# Altium footprint library PMP12082_TID.PcbLib: 28 footprints (part 2 of 2)
Each footprint in its own frame and in the unit in brackets; x right, y up, seen from the top. Pads: shape width x height; smd on the part's side, far side on the other; paste and mask are expansions set on the pad; w line width, h text height; cw(c..) or ccw(c..) is an arc to the next point about the centre after c.
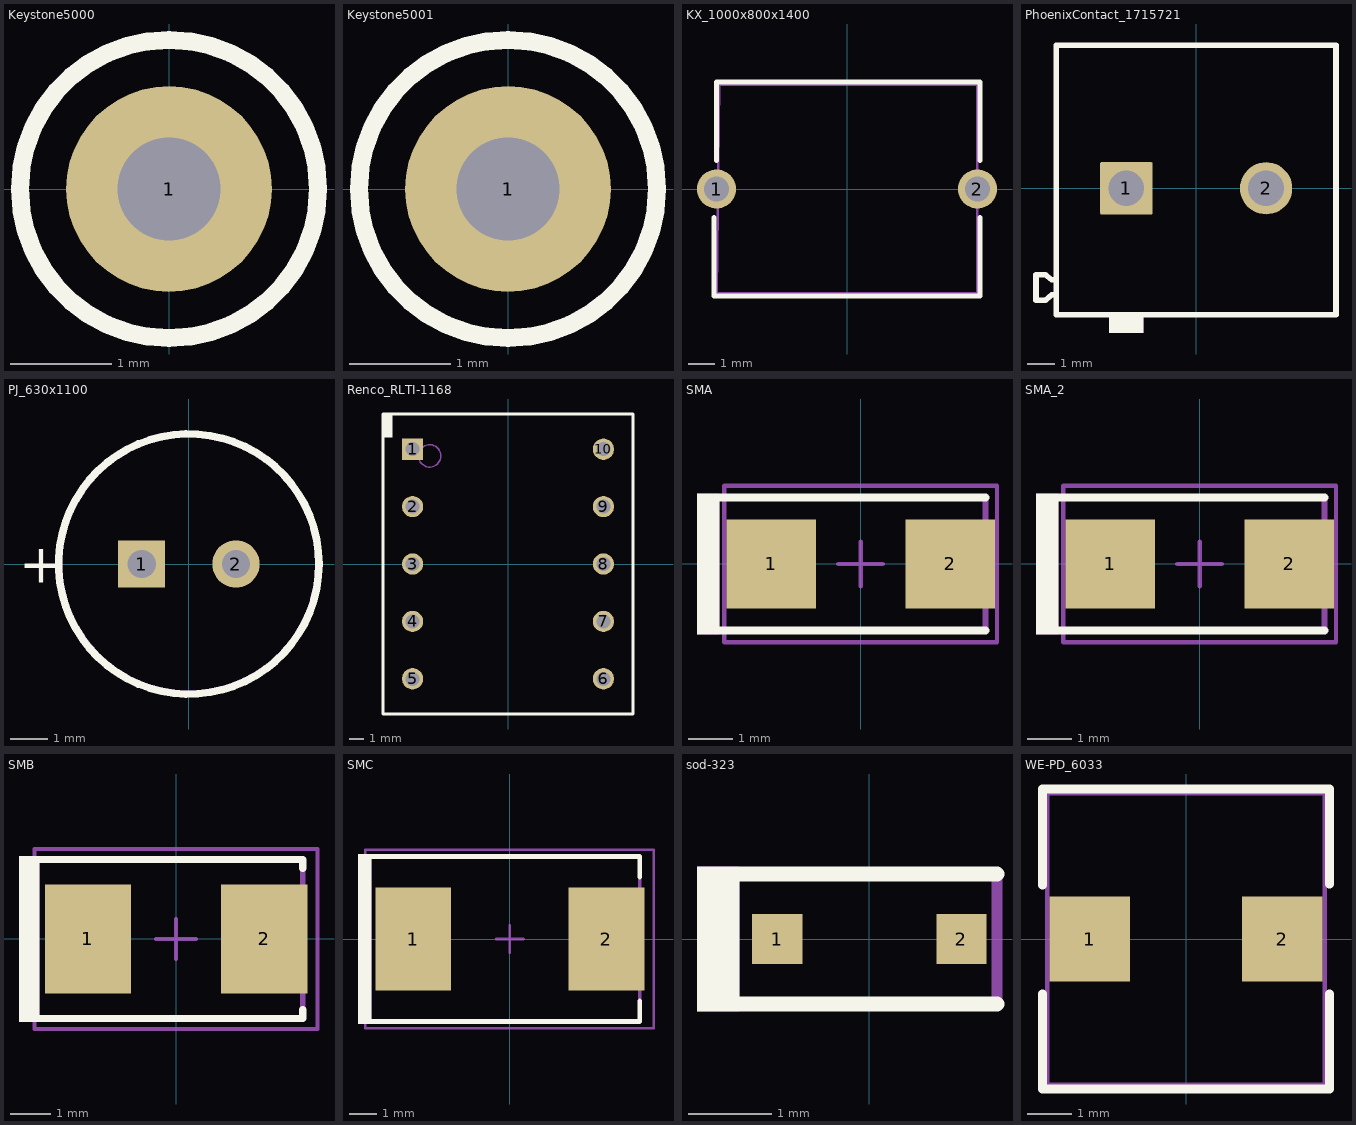
[diagram p1: the footprints below, top view; thin cyan lines are the x and y axes]

## Keystone5000 [mil]
pads (1):
  round 80 hole 40: 1(0,0)
Top Overlay:
  circle w7: c0,0 r58
Mechanical 5:
  circle w5: c0,0 r58.31
  text ".Designator" at -45,-10 h30
3D body "Keystone_5000.stp": height 181.97, standoff -118.11, extent -49,-49 49.04,49.24

## Keystone5001 [mil]
pads (1):
  round 80 hole 40: 1(0,0)
Top Overlay:
  circle w7: c0,0 r58
Mechanical 5:
  circle w5: c0,0 r58.31
  text ".Designator" at -45,-10 h30
3D body "Keystone_5001.stp": height 181.97, standoff -118.11, extent -49,-49 49.04,49.24

## KX_1000x800x1400 [mm]
pads (2):
  round 1.5 hole 0.95: 1(-5,0) 2(5,0)
Top Overlay:
  lines w0.2: -5.1,-1.1 -5.1,-4.1 5.1,-4.1 5.1,-1.1 ; -5,1.1 -5,4.1 5.1,4.1 5.1,1.1
Mechanical 5:
  lines w0.1: -5,-4 5,-4 5,4 -4.9,4 -5,-4
  text ".Designator" at -1.8,-0.6 h1.02
3D body: height 1.35, standoff 0.65, extent 4.654,-0.348 5.35,0.349
3D body: height 1.35, standoff 0.65, extent -5.307,-0.349 -4.611,0.348
3D body: height 1, standoff -3, extent 4.653,-0.349 5.35,0.349
3D body: height 4.78, standoff 0.75, extent 1.217,-0.35 5.245,0.349
3D body: height 4.78, standoff 0.75, extent -5.245,-0.349 -1.217,0.35
3D body: height 1, standoff -3, extent -5.308,-0.349 -4.61,0.349
3D body: height 11.99, standoff 2.01, extent -4.961,-4 5,4

## PhoenixContact_1715721 [mm]
pads (2):
  rrect5% 1.905x1.905 hole 1.3: 1(-2.54,0)
  round 1.9 hole 1.3: 2(2.54,0)
Top Overlay:
  rectangle: -3.17,-5.25 -1.92,-4.6
  lines w0.2: -5.08,-3.869 -5.247,-3.869 -5.479,-4.064 -5.821,-4.064 -5.821,-3.136 -5.479,-3.136 -5.247,-3.331 -5.08,-3.331 ; -5.08,-4.6 5.08,-4.6 5.08,5.2 -5.08,5.2 -5.08,-4.6
Mechanical 5:
  rectangle: -3.17,-5.25 -1.92,-4.6
  lines w0.1: -5.08,-3.869 -5.247,-3.869 -5.479,-4.064 -5.821,-4.064 -5.821,-3.136 -5.479,-3.136 -5.247,-3.331 -5.08,-3.331 ; -5.08,-4.6 -5.08,5.2 5.08,5.2 5.08,-4.6 -5.08,-4.6
  text ".Designator" at -1.14,-0.5 h1.52
3D body "1715721.stp": height 14.2, standoff -3.5, extent -5.817,-4.598 5.084,5.202

## PJ_630x1100 [mm]
pads (2):
  rect 1.25x1.25 hole 0.75: 1(-1.25,0)
  round 1.25 hole 0.75: 2(1.25,0)
Top Overlay:
  circle w0.2: c0,0 r3.45
  text "+" at -4.5,-0.5 h1.02
Mechanical 5:
  circle w0.1: c0,0 r3.4
  text "+" at -4.5,-0.5 h1.02
  text ".Designator" at -2,-0.5 h1.02
3D body "PJ_630x1100.stp": height 12.01, standoff -4, extent -3.373,-3.394 3.397,3.395

## Renco_RLTI-1168 [mm]
pads (10):
  rect 1.45x1.45 hole 0.95: 1(-6.502,7.823)
  round 1.45 hole 0.95: 2(-6.502,3.912) 3(-6.502,0) 4(-6.502,-3.912) 5(-6.502,-7.823) 6(6.502,-7.823) 7(6.502,-3.912) 8(6.502,0) 9(6.502,3.912) 10(6.502,7.823)
Top Overlay:
  rectangle: -8.509,8.636 -7.874,10.16
  lines w0.2: -8.509,-10.223 -8.509,10.223 8.509,10.223 8.509,-10.223 -8.509,-10.223
Mechanical 5:
  circle w0.1: c-5.334,7.366 r0.762
  lines w0.1: -8.509,-10.223 8.509,-10.223 8.509,10.223 -8.509,10.223 -8.509,-10.223
  text ".Designator" at -2.032,-0.508 h1.02
3D body: height 2.54, standoff -2.54, extent 6.162,7.481 6.845,8.166
3D body: height 2.54, standoff -2.54, extent 6.162,3.57 6.845,4.254
3D body: height 2.54, standoff -2.54, extent 6.162,-0.342 6.845,0.342
3D body: height 2.54, standoff -2.54, extent 6.162,-4.254 6.845,-3.569
3D body: height 2.54, standoff -2.54, extent 6.162,-8.165 6.845,-7.481
3D body: height 2.54, standoff -2.54, extent -6.842,-8.165 -6.159,-7.481
3D body: height 2.54, standoff -2.54, extent -6.842,-4.254 -6.159,-3.569
3D body: height 2.54, standoff -2.54, extent -6.842,-0.342 -6.159,0.342
3D body: height 2.54, standoff -2.54, extent -6.842,3.57 -6.159,4.254
3D body: height 2.54, standoff -2.54, extent -6.842,7.481 -6.159,8.166
3D body: height 20.95, standoff 8.25, extent -7.56,-7.605 7.62,7.605
3D body: height 8.89, standoff 2.54, extent 3.81,-10.223 8.509,10.223
3D body: height 8.89, standoff 2.54, extent -8.509,-10.223 -3.81,10.223
3D body: height 8.89, standoff 0, extent 2.54,-10.223 3.81,10.223
3D body: height 8.89, standoff 0, extent -3.81,-10.223 -2.54,10.223
3D body: height 24.13, standoff 7.62, extent -2.54,-10.223 2.54,10.223
3D body: height 8.92, standoff 8.89, extent -6.095,6.605 -4.573,8.127

## SMA [mm]
pads (2):
  rect 2x2 smd: 1(-2,0) 2(2,0)
Top Overlay:
  rectangle: -3.658,-1.575 -3.15,1.575
  lines w0.178: -3.327,-1.486 2.794,-1.486 ; -3.327,1.486 2.794,1.486
Mechanical 5:
  rectangle: -3.658,-1.575 -3.15,1.575
  lines w0.127: -3.327,-1.486 2.794,-1.486 2.794,1.486 -3.327,1.486
  text ".Designator" at -2.769,-0.33 h1.02
Mechanical 15:
  lines w0.1: -0.5,0 0.5,0 ; 0,-0.5 0,0.5 ; -3.05,-1.75 3.05,-1.75 3.05,1.75 -3.05,1.75 -3.05,-1.75
3D body "SMA_nominal.stp": height 2.42, standoff 0.02, extent -2.6,-1.3 2.6,1.3

## SMA_2 [mm]
pads (2):
  rect 2x2 smd: 1(-2,0) 2(2,0)
Top Overlay:
  rectangle: -3.658,-1.575 -3.15,1.575
  lines w0.178: -3.327,-1.486 2.794,-1.486 ; -3.327,1.486 2.794,1.486
Mechanical 5:
  rectangle: -3.658,-1.575 -3.15,1.575
  lines w0.127: -3.327,-1.486 2.794,-1.486 2.794,1.486 -3.327,1.486
  text ".Designator" at -2.769,-0.33 h1.02
Mechanical 15:
  lines w0.1: -0.5,0 0.5,0 ; 0,-0.5 0,0.5 ; -3.05,-1.75 -3.05,1.75 3.05,1.75 3.05,-1.75 -3.05,-1.75
3D body "SMA_nominal.stp": height 2.42, standoff 0.02, extent -2.6,-1.3 2.6,1.3

## SMB [mm]
pads (2):
  rect 2.159x2.743 smd: 1(-2.21,0) 2(2.21,0)
Top Overlay:
  rectangle: -3.937,-2.083 -3.429,2.083
  lines w0.178: -3.607,-1.994 3.175,-1.994 3.175,-1.765 ; -3.607,1.994 3.175,1.994 3.175,1.765
Mechanical 5:
  rectangle: -3.937,-2.083 -3.429,2.083
  lines w0.127: -3.607,-1.994 3.175,-1.994 3.175,-1.765 3.175,1.765 3.175,1.994 -3.607,1.994
  text ".Designator" at -2.311,-0.508 h1.02
Mechanical 15:
  lines w0.1: -0.5,0 0.5,0 ; 0,-0.5 0,0.5 ; -3.55,-2.25 3.55,-2.25 3.55,2.25 -3.55,2.25 -3.55,-2.25
3D body "SMB_nominal.stp": height 2.32, standoff 0.02, extent -2.7,-1.8 2.7,1.8

## SMC [mil]
pads (2):
  rect 110x150 smd: 1(-140.49,0) 2(140.49,0)
Top Overlay:
  rectangle: -221,-123.5 -201,123.5
  lines w7: -210,-120 189,-120 189,-90.25 ; -210,120 189,120 189,90.25
Mechanical 5:
  rectangle: -221,-123.5 -201,123.5
  lines w5: -210,-120 189,-120 189,120 -210,120
  text ".Designator" at -85,-20 h40
Mechanical 15:
  lines w3.94: -19.69,0 19.68,0 ; 0,-19.68 0,19.68 ; -210.46,-129.92 209.38,-129.92 209.38,129.92 -210.46,129.92 -210.46,-129.92
3D body "SMC_nominal.stp": height 91.35, standoff 0.6, extent -156.49,-116.13 156.5,116.15

## sod-323 [mm]
pads (2):
  rect 0.6x0.6 smd paste-0.05: 1(-1.1,0) 2(1.1,0)
Top Overlay:
  rectangle: -2.057,-0.864 -1.549,0.864
  lines w0.178: -1.803,-0.775 0.1,-0.775 1.525,-0.775 ; -1.803,0.775 0.1,0.775 1.525,0.775
Mechanical 5:
  rectangle: -2.057,-0.864 -1.549,0.864
  lines w0.127: -1.803,-0.775 0.1,-0.775 1.525,-0.775 1.525,0.775 0.1,0.775 -1.803,0.775
  text ".Designator" at -1.4,-0.275 h0.76
3D body "SOD-323.stp": height 1.1, standoff 0, extent -1.3,-0.675 1.3,0.675

## WE-PD_6033 [mm]
pads (2):
  rect 1.8x1.9 smd: 1(-2.15,0) 2(2.15,0)
Top Overlay:
  lines w0.2: -3.2,-1.225 -3.2,-3.35 3.2,-3.35 3.2,-1.225 ; -3.2,1.2 -3.2,3.35 3.2,3.35 3.2,1.225
Mechanical 5:
  lines w0.1: -3.1,-3.25 3.1,-3.25 3.1,3.25 -3.1,3.25 -3.1,-3.25
  text ".Designator" at -1.9,-0.525 h1.02
3D body: height 3.3, standoff 0, extent -3.099,-3.249 3.099,3.249